# Altium footprint library Shunt.PcbLib: 4 footprints
Each footprint in its own frame and in the unit in brackets; x right, y up, seen from the top. Pads: shape width x height; smd on the part's side, far side on the other; paste and mask are expansions set on the pad; w line width, h text height; cw(c..) or ccw(c..) is an arc to the next point about the centre after c.
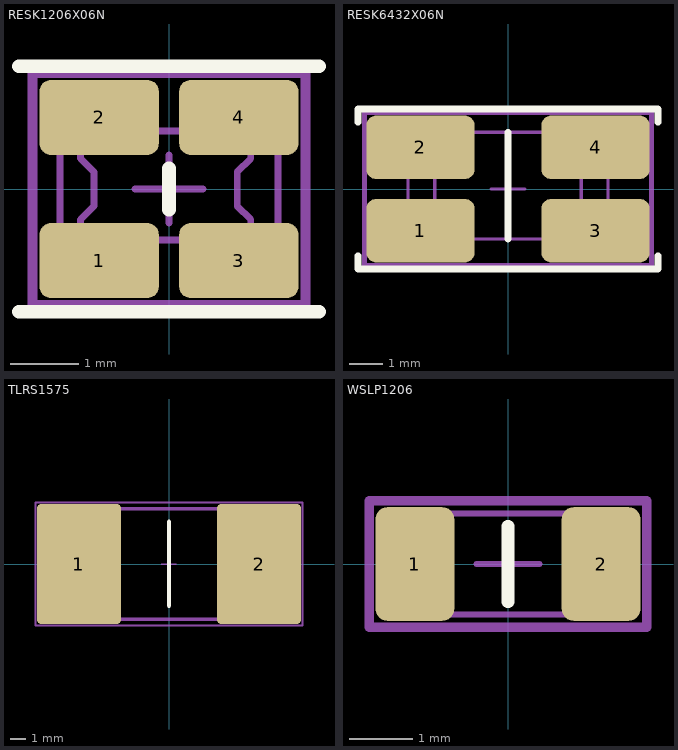
[diagram p0: the footprints below, top view; thin cyan lines are the x and y axes]

## RESK1206X06N [mm] "chip 4 Terminal High Precision Current Sense"
height 0.65
pads (4):
  rrect30% 1.75x1.1 smd: 1(-1.025,-1.05) 2(-1.025,1.05) 3(1.025,-1.05) 4(1.025,1.05)
Top Overlay:
  lines w0.2: -2.2,-1.8 2.2,-1.8 ; -2.2,1.8 2.2,1.8 ; 0,-0.3 0,0.3
Mechanical 13:
  lines w0.1: -1.3,-0.75 -1.3,-0.45 -1.1,-0.25 -1.1,0.25 -1.3,0.45 -1.3,0.85 ; 1.2,-0.75 1.2,-0.45 1,-0.25 1,0.25 1.2,0.45 1.2,0.85 ; -1.6,-0.75 1.6,-0.75 1.6,0.85 -1.6,0.85 -1.6,-0.75
Mechanical 15:
  lines w0.1: -0.5,0 0.5,0 ; 0,-0.5 0,0.5
  lines w0.15: -2,-1.7 2,-1.7 2,1.7 -2,1.7 -2,-1.7
Mechanical 17:
  text ".Designator" at -0.7,-0.3 h1
3D body "User Library-LVK12.STEP": height 0.61, standoff -0.01, extent -1.6,-0.8 1.6,0.8

## RESK6432X06N [mm] "chip 4 Terminal High Precision Current Sense"
height 0.65
pads (4):
  rrect30% 3.25x1.9 smd: 1(-2.625,-1.25) 2(-2.625,1.25) 3(2.625,-1.25) 4(2.625,1.25)
Top Overlay:
  lines w0.2: -4.5,-2 -4.5,-2.4 4.5,-2.4 4.5,-2 ; -4.5,2 -4.5,2.4 4.5,2.4 4.5,2 ; 0,-1.5 0,1.7
Mechanical 13:
  lines w0.1: -3.2,-1.5 3.2,-1.5 3.2,-0.7 3,-0.5 3,0.7 3.2,0.9 3.2,1.7 0,1.7 -3.2,1.7 -3.2,0.9 -3,0.7 -3,-0.5 -3.2,-0.7 -3.2,-1.5 ; -2.2,-1.5 2.2,-1.5 2.2,1.7 -2.2,1.7 -2.2,-1.5
Mechanical 15:
  lines w0.1: -0.5,0 0.5,0 ; 0,-0.5 0,0.5
  lines w0.15: -4.3,-2.3 -4.3,2.3 4.3,2.3 4.3,-2.3 -4.3,-2.3
Mechanical 17:
  text ".Designator" at -0.7,-0.3 h1
3D body "User Library-Ohmite_LVK25R003FER.step": height 0.6, standoff 0, extent -3.2,-1.5 3.2,1.7

## TLRS1575 [mm] "TLRS Series"
height 1
pads (2):
  rrect10% 5.6x8 smd: 1(-6,0) 2(6,0)
Top Overlay:
  lines w0.3: 0,-2.8 0,2.8
Mechanical 13:
  lines w0.254: -7.747,-3.683 7.747,-3.683 7.747,3.683 -7.747,3.683 -7.747,-3.683
Mechanical 15:
  lines w0.1: -0.5,0 0.5,0 ; 0,-0.5 0,0.5
  lines w0.15: -8.9,-4.1 8.9,-4.1 8.9,4.1 -8.9,4.1 -8.9,-4.1
Mechanical 17:
  text ".Designator" at -0.7,-0.3 h1.5
3D body: height 1, standoff 0.5, extent -7.746,-3.682 7.746,3.682

## WSLP1206 [mm] "Shunt Resistor, 2-Leads, Body 3,2x1,6mm, (from IPC Medium Density)"
height 0.64
pads (2):
  rrect30% 1.25x1.8 smd: 1(-1.475,0) 2(1.475,0)
Top Overlay:
  lines w0.2: 0,-0.6 0,0.6
Mechanical 13:
  lines w0.1: -1.6,-0.8 -1.6,0.8 1.6,0.8 1.6,-0.8 -1.6,-0.8
Mechanical 15:
  lines w0.1: -0.5,0 0.5,0 ; 0,-0.5 0,0.5
  lines w0.15: -2.2,-1 -2.2,1 2.2,1 2.2,-1 -2.2,-1
Mechanical 17:
  text ".Designator" at -0.7,-0.3 h1
3D body "WSLP1206_5.STEP": height 0.64, standoff 0, extent -1.6,-0.8 1.6,0.8